# Altium integrated library Capacitor - Aluminium TH.IntLib: 4591 symbols (part 55 of 68)
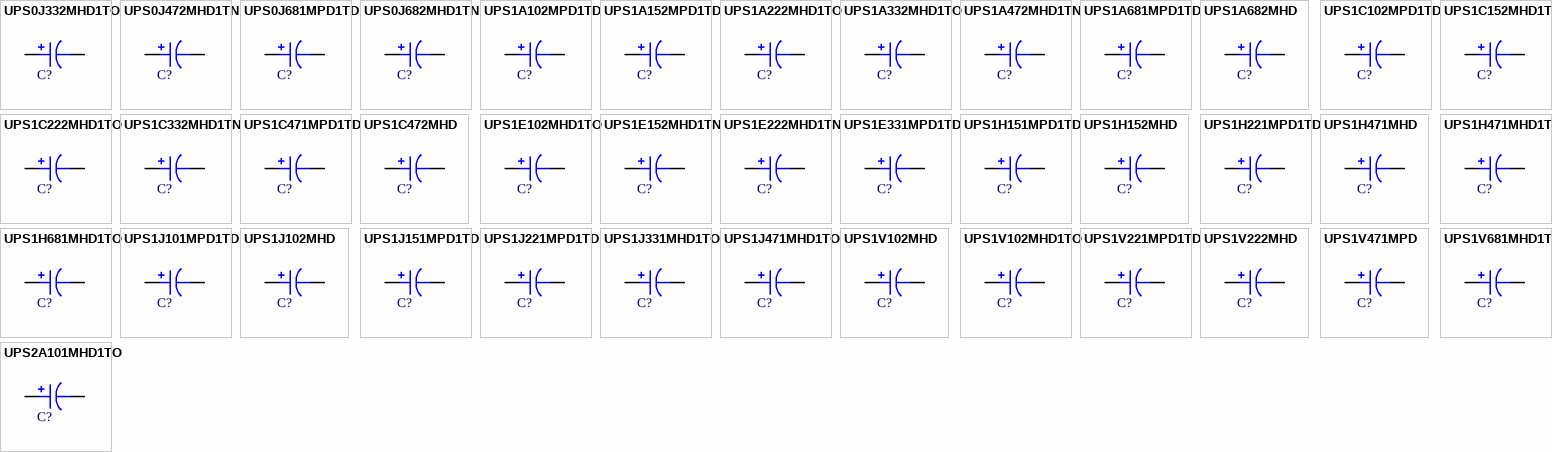
[diagram p168: symbols UPS0J332MHD1TO to UPS2A101MHD1TO]

## UPS1V222MHD
designator C?, comment 2200uF  (value not drawn)
CAP ALUM 2200UF 20% 35V RADIAL; Part Number: UPS1V222MHD; Manufacturer: Nichicon; TemperatureRange: -55C ~ 105C; Type: Polar; Ripple Current: 2.045A @ 120Hz; Impedance: 33 mOhm; Value: 2200uF; PartId: 27033; Supplier 1: Digi-Key; Supplier Part Number 1: 493-11152-ND; ComponentLink1Description: Datasheet; ComponentLink1URL: http://nichicon-us.com/english/products/pdfs/e-ups.pdf; ComponentLink2Description: Digi-Key Listing; ComponentLink2URL: https://www.digikey.com/product-detail/en/nichicon/UPS1V222MHD/493-11152-ND/2600007; Tolerance: 20%; Voltage: 35V; Price: 1.51; Device Package: Radial, Can, 16mm
footprint CAP AL TH D16 L7.5 H33.5
pins: 1, 2

## UPS1V471MPD
designator C?, comment 470uF  (value not drawn)
CAP ALUM 470UF 20% 35V RADIAL; Part Number: UPS1V471MPD; Manufacturer: Nichicon; TemperatureRange: -55C ~ 105C; Type: Polar; Ripple Current: 710mA @ 120Hz; Impedance: 110 mOhm; Value: 470uF; PartId: 25942; Supplier 1: Digi-Key; Supplier Part Number 1: UPS1V471MPD-ND; ComponentLink1Description: Datasheet; ComponentLink1URL: http://nichicon-us.com/english/products/pdfs/e-ups.pdf; ComponentLink2Description: Digi-Key Listing; ComponentLink2URL: https://www.digikey.com/product-detail/en/nichicon/UPS1V471MPD/UPS1V471MPD-ND/2600017; Tolerance: 20%; Voltage: 35V; Price: 0.74; Device Package: Radial, Can, 10mm
footprint CAP AL TH D10 L5 H22
pins: 1, 2

## UPS1V681MHD1TO
designator C?, comment 680uF  (value not drawn)
CAP ALUM 680UF 20% 35V RADIAL; Part Number: UPS1V681MHD1TO; Manufacturer: Nichicon; TemperatureRange: -55C ~ 105C; Type: Polar; Ripple Current: 887.5mA @ 120Hz; Impedance: 75 mOhm; Value: 680uF; PartId: 23244; Supplier 1: Digi-Key; Supplier Part Number 1: 493-11980-1-ND; ComponentLink1Description: Datasheet; ComponentLink1URL: http://nichicon-us.com/english/products/pdfs/e-ups.pdf; ComponentLink2Description: Digi-Key Listing; ComponentLink2URL: https://www.digikey.com/product-detail/en/nichicon/UPS1V681MHD1TO/493-11980-1-ND/4319759; Tolerance: 20%; Voltage: 35V; Price: 0.69; Device Package: Radial, Can, 12.5mm
footprint CAP AL TH D12.5 L5 H22
pins: 1, 2

## UPS2A101MHD1TO
designator C?, comment 100uF  (value not drawn)
CAP ALUM 100UF 20% 100V RADIAL; Part Number: UPS2A101MHD1TO; Manufacturer: Nichicon; TemperatureRange: -55C ~ 105C; Type: Polar; Ripple Current: 290mA @ 120Hz; Impedance: 180 mOhm; Value: 100uF; PartId: 23126; Supplier 1: Digi-Key; Supplier Part Number 1: 493-11961-3-ND; ComponentLink1Description: Datasheet; ComponentLink1URL: http://nichicon-us.com/english/products/pdfs/e-ups.pdf; ComponentLink2Description: Digi-Key Listing; ComponentLink2URL: https://www.digikey.com/product-detail/en/nichicon/UPS2A101MHD1TO/493-11961-3-ND/4321104; Tolerance: 20%; Voltage: 100V; Price: 0.2362; Device Package: Radial, Can, 12.5mm
footprint CAP AL TH D12.5 L5 H22
pins: 1, 2

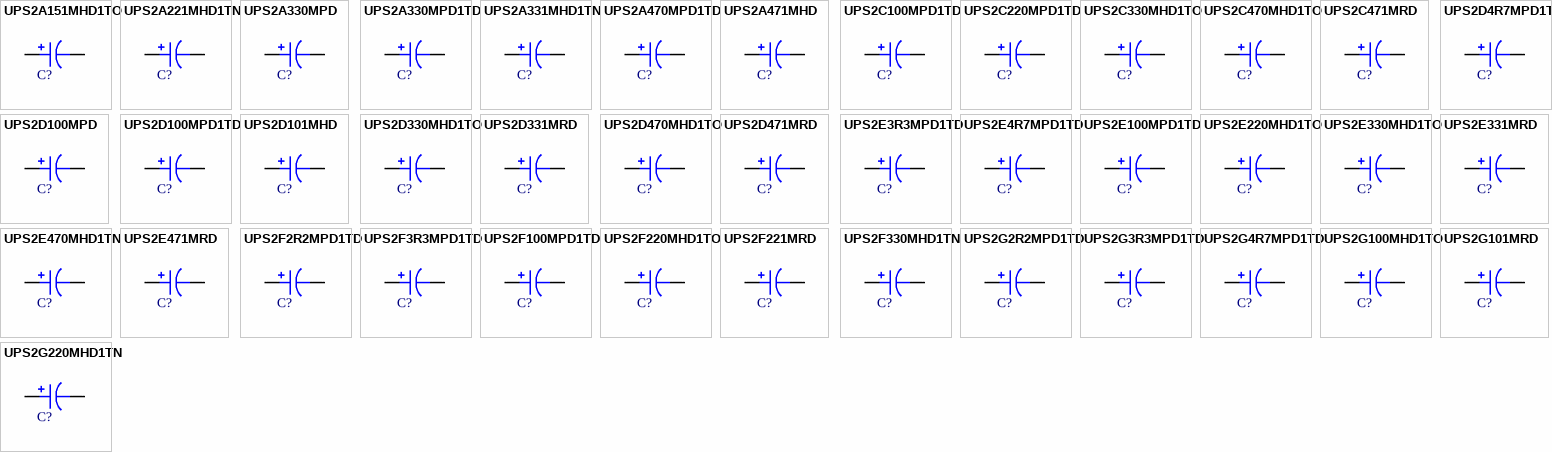
[diagram p91: symbols UPS2A151MHD1TO to UPS2G220MHD1TN]

## UPS2A151MHD1TO
designator C?, comment 150uF  (value not drawn)
CAP ALUM 150UF 20% 100V RADIAL; Part Number: UPS2A151MHD1TO; Manufacturer: Nichicon; TemperatureRange: -55C ~ 105C; Type: Polar; Ripple Current: 355mA @ 120Hz; Impedance: 130 mOhm; Value: 150uF; PartId: 23828; Supplier 1: Digi-Key; Supplier Part Number 1: 493-5379-3-ND; ComponentLink1Description: Datasheet; ComponentLink1URL: http://nichicon-us.com/english/products/pdfs/e-ups.pdf; ComponentLink2Description: Digi-Key Listing; ComponentLink2URL: https://www.digikey.com/product-detail/en/nichicon/UPS2A151MHD1TO/493-5379-3-ND/3130384; Tolerance: 20%; Voltage: 100V; Price: 0.45; Device Package: Radial, Can, 12.5mm
footprint CAP AL TH D12.5 L5 H27
pins: 1, 2

## UPS2A221MHD1TN
designator C?, comment 220uF  (value not drawn)
CAP ALUM 220UF 20% 100V RADIAL; Part Number: UPS2A221MHD1TN; Manufacturer: Nichicon; TemperatureRange: -55C ~ 105C; Type: Polar; Ripple Current: 445mA @ 120Hz; Impedance: 100 mOhm; Value: 220uF; PartId: 26736; Supplier 1: Digi-Key; Supplier Part Number 1: 493-12151-3-ND; ComponentLink1Description: Datasheet; ComponentLink1URL: http://nichicon-us.com/english/products/pdfs/e-ups.pdf; ComponentLink2Description: Digi-Key Listing; ComponentLink2URL: https://www.digikey.com/product-detail/en/nichicon/UPS2A221MHD1TN/493-12151-3-ND/4321294; Tolerance: 20%; Voltage: 100V; Price: 0.48; Device Package: Radial, Can, 16mm
footprint CAP AL TH D16 L7.5 H27
pins: 1, 2

## UPS2A330MPD
designator C?, comment 33uF  (value not drawn)
CAP ALUM 33UF 20% 100V RADIAL; Part Number: UPS2A330MPD; Manufacturer: Nichicon; TemperatureRange: -55C ~ 105C; Type: Polar; Ripple Current: 54.4mA @ 120Hz; Impedance: 460 mOhm; Value: 33uF; PartId: 24739; Supplier 1: Digi-Key; Supplier Part Number 1: UPS2A330MPD-ND; ComponentLink1Description: Datasheet; ComponentLink1URL: http://nichicon-us.com/english/products/pdfs/e-ups.pdf; ComponentLink2Description: Digi-Key Listing; ComponentLink2URL: https://www.digikey.com/product-detail/en/nichicon/UPS2A330MPD/UPS2A330MPD-ND/2600045; Tolerance: 20%; Voltage: 100V; Price: 0.41; Device Package: Radial, Can, 10mm
footprint CAP AL TH D10 L5 H14.5
pins: 1, 2

## UPS2A330MPD1TD
designator C?, comment 33uF  (value not drawn)
CAP ALUM 33UF 20% 100V RADIAL; Part Number: UPS2A330MPD1TD; Manufacturer: Nichicon; TemperatureRange: -55C ~ 105C; Type: Polar; Ripple Current: 54.4mA @ 120Hz; Impedance: 460 mOhm; Value: 33uF; PartId: 24866; Supplier 1: Digi-Key; Supplier Part Number 1: 493-11680-1-ND; ComponentLink1Description: Datasheet; ComponentLink1URL: http://nichicon-us.com/english/products/pdfs/e-ups.pdf; ComponentLink2Description: Digi-Key Listing; ComponentLink2URL: https://www.digikey.com/product-detail/en/nichicon/UPS2A330MPD1TD/493-11680-1-ND/4319765; Tolerance: 20%; Voltage: 100V; Price: 0.47; Device Package: Radial, Can, 10mm
footprint CAP AL TH D10 L5 H14.5
pins: 1, 2

## UPS2A331MHD1TN
designator C?, comment 330uF  (value not drawn)
CAP ALUM 330UF 20% 100V RADIAL; Part Number: UPS2A331MHD1TN; Manufacturer: Nichicon; TemperatureRange: -55C ~ 105C; Type: Polar; Ripple Current: 766.8mA @ 120Hz; Impedance: 90 mOhm; Value: 330uF; PartId: 26755; Supplier 1: Digi-Key; Supplier Part Number 1: 493-12236-3-ND; ComponentLink1Description: Datasheet; ComponentLink1URL: http://nichicon-us.com/english/products/pdfs/e-ups.pdf; ComponentLink2Description: Digi-Key Listing; ComponentLink2URL: https://www.digikey.com/product-detail/en/nichicon/UPS2A331MHD1TN/493-12236-3-ND/4321379; Tolerance: 20%; Voltage: 100V; Price: 0.5662; Device Package: Radial, Can, 16mm
footprint CAP AL TH D16 L7.5 H27
pins: 1, 2

## UPS2A470MPD1TD
designator C?, comment 47uF  (value not drawn)
CAP ALUM 47UF 20% 100V RADIAL; Part Number: UPS2A470MPD1TD; Manufacturer: Nichicon; TemperatureRange: -55C ~ 105C; Type: Polar; Ripple Current: 71.4mA @ 120Hz; Impedance: 370 mOhm; Value: 47uF; PartId: 25000; Supplier 1: Digi-Key; Supplier Part Number 1: 493-11734-3-ND; ComponentLink1Description: Datasheet; ComponentLink1URL: http://nichicon-us.com/english/products/pdfs/e-ups.pdf; ComponentLink2Description: Digi-Key Listing; ComponentLink2URL: https://www.digikey.com/product-detail/en/nichicon/UPS2A470MPD1TD/493-11734-3-ND/4320877; Tolerance: 20%; Voltage: 100V; Price: 0.1489; Device Package: Radial, Can, 10mm
footprint CAP AL TH D10 L5 H17.5
pins: 1, 2

## UPS2A471MHD
designator C?, comment 470uF  (value not drawn)
CAP ALUM 470UF 20% 100V RADIAL; Part Number: UPS2A471MHD; Manufacturer: Nichicon; TemperatureRange: -55C ~ 105C; Type: Polar; Ripple Current: 1.31A; Impedance: 76 mOhm; Value: 470uF; PartId: 27169; Supplier 1: Digi-Key; Supplier Part Number 1: 493-11155-ND; ComponentLink1Description: Datasheet; ComponentLink1URL: http://nichicon-us.com/english/products/pdfs/e-ups.pdf; ComponentLink2Description: Digi-Key Listing; ComponentLink2URL: https://www.digikey.com/product-detail/en/nichicon/UPS2A471MHD/493-11155-ND/2600053; Tolerance: 20%; Voltage: 100V; Price: 1.89; Device Package: Radial, Can, 16mm
footprint CAP AL TH D16 L7.5 H33.5
pins: 1, 2

## UPS2C100MPD1TD
designator C?, comment 10uF  (value not drawn)
CAP ALUM 10UF 20% 160V RADIAL; Part Number: UPS2C100MPD1TD; Manufacturer: Nichicon; TemperatureRange: -40C ~ 105C; Type: Polar; Ripple Current: 70mA @ 120Hz; Value: 10uF; PartId: 24505; Supplier 1: Digi-Key; Supplier Part Number 1: 493-11647-3-ND; ComponentLink1Description: Datasheet; ComponentLink1URL: http://nichicon-us.com/english/products/pdfs/e-ups.pdf; ComponentLink2Description: Digi-Key Listing; ComponentLink2URL: https://www.digikey.com/product-detail/en/nichicon/UPS2C100MPD1TD/493-11647-3-ND/4320790; Tolerance: 20%; Voltage: 160V; Price: 0.1194; Device Package: Radial, Can, 10mm
footprint CAP AL TH D10 L5 H14.5
pins: 1, 2

## UPS2C220MPD1TD
designator C?, comment 22uF  (value not drawn)
CAP ALUM 22UF 20% 160V RADIAL; Part Number: UPS2C220MPD1TD; Manufacturer: Nichicon; TemperatureRange: -40C ~ 105C; Type: Polar; Ripple Current: 130mA @ 120Hz; Value: 22uF; PartId: 25726; Supplier 1: Digi-Key; Supplier Part Number 1: 493-5384-3-ND; ComponentLink1Description: Datasheet; ComponentLink1URL: http://nichicon-us.com/english/products/pdfs/e-ups.pdf; ComponentLink2Description: Digi-Key Listing; ComponentLink2URL: https://www.digikey.com/product-detail/en/nichicon/UPS2C220MPD1TD/493-5384-3-ND/3130389; Tolerance: 20%; Voltage: 160V; Price: 0.1528; Device Package: Radial, Can, 10mm
footprint CAP AL TH D10 L5 H22
pins: 1, 2

## UPS2C330MHD1TO
designator C?, comment 33uF  (value not drawn)
CAP ALUM 33UF 20% 160V RADIAL; Part Number: UPS2C330MHD1TO; Manufacturer: Nichicon; TemperatureRange: -40C ~ 105C; Type: Polar; Ripple Current: 180mA @ 120Hz; Value: 33uF; PartId: 23122; Supplier 1: Digi-Key; Supplier Part Number 1: 493-5386-3-ND; ComponentLink1Description: Datasheet; ComponentLink1URL: http://nichicon-us.com/english/products/pdfs/e-ups.pdf; ComponentLink2Description: Digi-Key Listing; ComponentLink2URL: https://www.digikey.com/product-detail/en/nichicon/UPS2C330MHD1TO/493-5386-3-ND/3130391; Tolerance: 20%; Voltage: 160V; Price: 0.1946; Device Package: Radial, Can, 12.5mm
footprint CAP AL TH D12.5 L5 H22
pins: 1, 2

## UPS2C470MHD1TO
designator C?, comment 47uF  (value not drawn)
CAP ALUM 47UF 20% 160V RADIAL; Part Number: UPS2C470MHD1TO; Manufacturer: Nichicon; TemperatureRange: -40C ~ 105C; Type: Polar; Ripple Current: 220mA @ 120Hz; Value: 47uF; PartId: 23789; Supplier 1: Digi-Key; Supplier Part Number 1: 493-5387-3-ND; ComponentLink1Description: Datasheet; ComponentLink1URL: http://nichicon-us.com/english/products/pdfs/e-ups.pdf; ComponentLink2Description: Digi-Key Listing; ComponentLink2URL: https://www.digikey.com/product-detail/en/nichicon/UPS2C470MHD1TO/493-5387-3-ND/3130392; Tolerance: 20%; Voltage: 160V; Price: 0.3087; Device Package: Radial, Can, 12.5mm
footprint CAP AL TH D12.5 L5 H27
pins: 1, 2

## UPS2C471MRD
designator C?, comment 470uF  (value not drawn)
CAP ALUM 470UF 20% 160V RADIAL; Part Number: UPS2C471MRD; Manufacturer: Nichicon; TemperatureRange: -40C ~ 105C; Type: Polar; Ripple Current: 1.2A @ 120Hz; Value: 470uF; PartId: 27670; Supplier 1: Digi-Key; Supplier Part Number 1: 493-5661-ND; ComponentLink1Description: Datasheet; ComponentLink1URL: http://nichicon-us.com/english/products/pdfs/e-ups.pdf; ComponentLink2Description: Digi-Key Listing; ComponentLink2URL: https://www.digikey.com/product-detail/en/nichicon/UPS2C471MRD/493-5661-ND/2600087; Tolerance: 20%; Voltage: 160V; Price: 3.15; Device Package: Radial, Can, 22mm
footprint CAP AL TH D22 L10 H53
pins: 1, 2

## UPS2D4R7MPD1TD
designator C?, comment 4.7uF  (value not drawn)
CAP ALUM 4.7UF 20% 200V RADIAL; Part Number: UPS2D4R7MPD1TD; Manufacturer: Nichicon; TemperatureRange: -40C ~ 105C; Type: Polar; Ripple Current: 50mA @ 120Hz; Value: 4.7uF; PartId: 24506; Supplier 1: Digi-Key; Supplier Part Number 1: 493-5395-3-ND; ComponentLink1Description: Datasheet; ComponentLink1URL: http://nichicon-us.com/english/products/pdfs/e-ups.pdf; ComponentLink2Description: Digi-Key Listing; ComponentLink2URL: https://www.digikey.com/product-detail/en/nichicon/UPS2D4R7MPD1TD/493-5395-3-ND/3130400; Tolerance: 20%; Voltage: 200V; Price: 0.1194; Device Package: Radial, Can, 10mm
footprint CAP AL TH D10 L5 H14.5
pins: 1, 2

## UPS2D100MPD
designator C?, comment 10uF  (value not drawn)
CAP ALUM 10UF 20% 200V RADIAL; Part Number: UPS2D100MPD; Manufacturer: Nichicon; TemperatureRange: -40C ~ 105C; Type: Polar; Ripple Current: 80mA @ 120Hz; Value: 10uF; PartId: 25190; Supplier 1: Digi-Key; Supplier Part Number 1: UPS2D100MPD-ND; ComponentLink1Description: Datasheet; ComponentLink1URL: http://nichicon-us.com/english/products/pdfs/e-ups.pdf; ComponentLink2Description: Digi-Key Listing; ComponentLink2URL: https://www.digikey.com/product-detail/en/nichicon/UPS2D100MPD/UPS2D100MPD-ND/2428063; Tolerance: 20%; Voltage: 200V; Price: 0.48; Device Package: Radial, Can, 10mm
footprint CAP AL TH D10 L5 H17.5
pins: 1, 2

## UPS2D100MPD1TD
designator C?, comment 10uF  (value not drawn)
CAP ALUM 10UF 20% 200V RADIAL; Part Number: UPS2D100MPD1TD; Manufacturer: Nichicon; TemperatureRange: -40C ~ 105C; Type: Polar; Ripple Current: 80mA @ 120Hz; Value: 10uF; PartId: 25002; Supplier 1: Digi-Key; Supplier Part Number 1: 493-11735-3-ND; ComponentLink1Description: Datasheet; ComponentLink1URL: http://nichicon-us.com/english/products/pdfs/e-ups.pdf; ComponentLink2Description: Digi-Key Listing; ComponentLink2URL: https://www.digikey.com/product-detail/en/nichicon/UPS2D100MPD1TD/493-11735-3-ND/4320878; Tolerance: 20%; Voltage: 200V; Price: 0.1491; Device Package: Radial, Can, 10mm
footprint CAP AL TH D10 L5 H17.5
pins: 1, 2

## UPS2D101MHD
designator C?, comment 100uF  (value not drawn)
CAP ALUM 100UF 20% 200V RADIAL; Part Number: UPS2D101MHD; Manufacturer: Nichicon; TemperatureRange: -40C ~ 105C; Type: Polar; Ripple Current: 335mA; Value: 100uF; PartId: 27062; Supplier 1: Digi-Key; Supplier Part Number 1: 493-11157-ND; ComponentLink1Description: Datasheet; ComponentLink1URL: http://nichicon-us.com/english/products/pdfs/e-ups.pdf; ComponentLink2Description: Digi-Key Listing; ComponentLink2URL: https://www.digikey.com/product-detail/en/nichicon/UPS2D101MHD/493-11157-ND/2600096; Tolerance: 20%; Voltage: 200V; Price: 1.6; Device Package: Radial, Can, 16mm
footprint CAP AL TH D16 L7.5 H33.5
pins: 1, 2

## UPS2D330MHD1TO
designator C?, comment 33uF  (value not drawn)
CAP ALUM 33UF 20% 200V RADIAL; Part Number: UPS2D330MHD1TO; Manufacturer: Nichicon; TemperatureRange: -40C ~ 105C; Type: Polar; Ripple Current: 190mA @ 120Hz; Value: 33uF; PartId: 23795; Supplier 1: Digi-Key; Supplier Part Number 1: 493-5392-3-ND; ComponentLink1Description: Datasheet; ComponentLink1URL: http://nichicon-us.com/english/products/pdfs/e-ups.pdf; ComponentLink2Description: Digi-Key Listing; ComponentLink2URL: https://www.digikey.com/product-detail/en/nichicon/UPS2D330MHD1TO/493-5392-3-ND/3130397; Tolerance: 20%; Voltage: 200V; Price: 0.3304; Device Package: Radial, Can, 12.5mm
footprint CAP AL TH D12.5 L5 H27
pins: 1, 2

## UPS2D331MRD
designator C?, comment 330uF  (value not drawn)
CAP ALUM 330UF 20% 200V RADIAL; Part Number: UPS2D331MRD; Manufacturer: Nichicon; TemperatureRange: -40C ~ 105C; Type: Polar; Ripple Current: 1.1A @ 120Hz; Value: 330uF; PartId: 27595; Supplier 1: Digi-Key; Supplier Part Number 1: 493-5663-ND; ComponentLink1Description: Datasheet; ComponentLink1URL: http://nichicon-us.com/english/products/pdfs/e-ups.pdf; ComponentLink2Description: Digi-Key Listing; ComponentLink2URL: https://www.digikey.com/product-detail/en/nichicon/UPS2D331MRD/493-5663-ND/2600109; Tolerance: 20%; Voltage: 200V; Price: 3.31; Device Package: Radial, Can, 22mm
footprint CAP AL TH D22 L10 H43
pins: 1, 2

## UPS2D470MHD1TO
designator C?, comment 47uF  (value not drawn)
CAP ALUM 47UF 20% 200V RADIAL; Part Number: UPS2D470MHD1TO; Manufacturer: Nichicon; TemperatureRange: -40C ~ 105C; Type: Polar; Ripple Current: 220mA @ 120Hz; Value: 47uF; PartId: 23791; Supplier 1: Digi-Key; Supplier Part Number 1: 493-5394-3-ND; ComponentLink1Description: Datasheet; ComponentLink1URL: http://nichicon-us.com/english/products/pdfs/e-ups.pdf; ComponentLink2Description: Digi-Key Listing; ComponentLink2URL: https://www.digikey.com/product-detail/en/nichicon/UPS2D470MHD1TO/493-5394-3-ND/3130399; Tolerance: 20%; Voltage: 200V; Price: 0.3258; Device Package: Radial, Can, 12.5mm
footprint CAP AL TH D12.5 L5 H27
pins: 1, 2

## UPS2D471MRD
designator C?, comment 470uF  (value not drawn)
CAP ALUM 470UF 20% 200V RADIAL; Part Number: UPS2D471MRD; Manufacturer: Nichicon; TemperatureRange: -40C ~ 105C; Type: Polar; Ripple Current: 1.31A @ 120Hz; Value: 470uF; PartId: 27672; Supplier 1: Digi-Key; Supplier Part Number 1: 493-5664-ND; ComponentLink1Description: Datasheet; ComponentLink1URL: http://nichicon-us.com/english/products/pdfs/e-ups.pdf; ComponentLink2Description: Digi-Key Listing; ComponentLink2URL: https://www.digikey.com/product-detail/en/nichicon/UPS2D471MRD/493-5664-ND/2600116; Tolerance: 20%; Voltage: 200V; Price: 3.8; Device Package: Radial, Can, 22mm
footprint CAP AL TH D22 L10 H53
pins: 1, 2

## UPS2E3R3MPD1TD
designator C?, comment 3.3uF  (value not drawn)
CAP ALUM 3.3UF 20% 250V RADIAL; Part Number: UPS2E3R3MPD1TD; Manufacturer: Nichicon; TemperatureRange: -40C ~ 105C; Type: Polar; Ripple Current: 42mA @ 120Hz; Value: 3.3uF; PartId: 24499; Supplier 1: Digi-Key; Supplier Part Number 1: 493-5400-3-ND; ComponentLink1Description: Datasheet; ComponentLink1URL: http://nichicon-us.com/english/products/pdfs/e-ups.pdf; ComponentLink2Description: Digi-Key Listing; ComponentLink2URL: https://www.digikey.com/product-detail/en/nichicon/UPS2E3R3MPD1TD/493-5400-3-ND/3130405; Tolerance: 20%; Voltage: 250V; Price: 0.1109; Device Package: Radial, Can, 10mm
footprint CAP AL TH D10 L5 H14.5
pins: 1, 2

## UPS2E4R7MPD1TD
designator C?, comment 4.7uF  (value not drawn)
CAP ALUM 4.7UF 20% 250V RADIAL; Part Number: UPS2E4R7MPD1TD; Manufacturer: Nichicon; TemperatureRange: -40C ~ 105C; Type: Polar; Ripple Current: 50mA @ 120Hz; Value: 4.7uF; PartId: 24504; Supplier 1: Digi-Key; Supplier Part Number 1: 493-5402-3-ND; ComponentLink1Description: Datasheet; ComponentLink1URL: http://nichicon-us.com/english/products/pdfs/e-ups.pdf; ComponentLink2Description: Digi-Key Listing; ComponentLink2URL: https://www.digikey.com/product-detail/en/nichicon/UPS2E4R7MPD1TD/493-5402-3-ND/3130407; Tolerance: 20%; Voltage: 250V; Price: 0.1194; Device Package: Radial, Can, 10mm
footprint CAP AL TH D10 L5 H14.5
pins: 1, 2

## UPS2E100MPD1TD
designator C?, comment 10uF  (value not drawn)
CAP ALUM 10UF 20% 250V RADIAL; Part Number: UPS2E100MPD1TD; Manufacturer: Nichicon; TemperatureRange: -40C ~ 105C; Type: Polar; Ripple Current: 88mA @ 120Hz; Value: 10uF; PartId: 25725; Supplier 1: Digi-Key; Supplier Part Number 1: 493-11806-3-ND; ComponentLink1Description: Datasheet; ComponentLink1URL: http://nichicon-us.com/english/products/pdfs/e-ups.pdf; ComponentLink2Description: Digi-Key Listing; ComponentLink2URL: https://www.digikey.com/product-detail/en/nichicon/UPS2E100MPD1TD/493-11806-3-ND/4320949; Tolerance: 20%; Voltage: 250V; Price: 0.1528; Device Package: Radial, Can, 10mm
footprint CAP AL TH D10 L5 H22
pins: 1, 2

## UPS2E220MHD1TO
designator C?, comment 22uF  (value not drawn)
CAP ALUM 22UF 20% 250V RADIAL; Part Number: UPS2E220MHD1TO; Manufacturer: Nichicon; TemperatureRange: -40C ~ 105C; Type: Polar; Ripple Current: 155mA @ 120Hz; Value: 22uF; PartId: 23787; Supplier 1: Digi-Key; Supplier Part Number 1: 493-5398-3-ND; ComponentLink1Description: Datasheet; ComponentLink1URL: http://nichicon-us.com/english/products/pdfs/e-ups.pdf; ComponentLink2Description: Digi-Key Listing; ComponentLink2URL: https://www.digikey.com/product-detail/en/nichicon/UPS2E220MHD1TO/493-5398-3-ND/3130403; Tolerance: 20%; Voltage: 250V; Price: 0.2918; Device Package: Radial, Can, 12.5mm
footprint CAP AL TH D12.5 L5 H27
pins: 1, 2

## UPS2E330MHD1TO
designator C?, comment 33uF  (value not drawn)
CAP ALUM 33UF 20% 250V RADIAL; Part Number: UPS2E330MHD1TO; Manufacturer: Nichicon; TemperatureRange: -40C ~ 105C; Type: Polar; Ripple Current: 190mA @ 120Hz; Value: 33uF; PartId: 23868; Supplier 1: Digi-Key; Supplier Part Number 1: 493-12050-1-ND; ComponentLink1Description: Datasheet; ComponentLink1URL: http://nichicon-us.com/english/products/pdfs/e-ups.pdf; ComponentLink2Description: Digi-Key Listing; ComponentLink2URL: https://www.digikey.com/product-detail/en/nichicon/UPS2E330MHD1TO/493-12050-1-ND/4319774; Tolerance: 20%; Voltage: 250V; Price: 0.79; Device Package: Radial, Can, 12.5mm
footprint CAP AL TH D12.5 L5 H27
pins: 1, 2

## UPS2E331MRD
designator C?, comment 330uF  (value not drawn)
CAP ALUM 330UF 20% 250V RADIAL; Part Number: UPS2E331MRD; Manufacturer: Nichicon; TemperatureRange: -40C ~ 105C; Type: Polar; Ripple Current: 1.15A; Value: 330uF; PartId: 27640; Supplier 1: Digi-Key; Supplier Part Number 1: 493-11160-ND; ComponentLink1Description: Datasheet; ComponentLink1URL: http://nichicon-us.com/english/products/pdfs/e-ups.pdf; ComponentLink2Description: Digi-Key Listing; ComponentLink2URL: https://www.digikey.com/product-detail/en/nichicon/UPS2E331MRD/493-11160-ND/2600127; Tolerance: 20%; Voltage: 250V; Price: 4.05; Device Package: Radial, Can, 22mm
footprint CAP AL TH D22 L10 H53
pins: 1, 2

## UPS2E470MHD1TN
designator C?, comment 47uF  (value not drawn)
CAP ALUM 47UF 20% 250V RADIAL; Part Number: UPS2E470MHD1TN; Manufacturer: Nichicon; TemperatureRange: -40C ~ 105C; Type: Polar; Ripple Current: 230mA @ 120Hz; Value: 47uF; PartId: 26767; Supplier 1: Digi-Key; Supplier Part Number 1: 493-5401-3-ND; ComponentLink1Description: Datasheet; ComponentLink1URL: http://nichicon-us.com/english/products/pdfs/e-ups.pdf; ComponentLink2Description: Digi-Key Listing; ComponentLink2URL: https://www.digikey.com/product-detail/en/nichicon/UPS2E470MHD1TN/493-5401-3-ND/3130406; Tolerance: 20%; Voltage: 250V; Price: 0.607; Device Package: Radial, Can, 16mm
footprint CAP AL TH D16 L7.5 H27
pins: 1, 2

## UPS2E471MRD
designator C?, comment 470uF  (value not drawn)
CAP ALUM 470UF 20% 250V RADIAL; Part Number: UPS2E471MRD; Manufacturer: Nichicon; TemperatureRange: -40C ~ 105C; Type: Polar; Ripple Current: 1.35A @ 120Hz; Value: 470uF; PartId: 27529; Supplier 1: Digi-Key; Supplier Part Number 1: 493-5667-ND; ComponentLink1Description: Datasheet; ComponentLink1URL: http://nichicon-us.com/english/products/pdfs/e-ups.pdf; ComponentLink2Description: Digi-Key Listing; ComponentLink2URL: https://www.digikey.com/product-detail/en/nichicon/UPS2E471MRD/493-5667-ND/2600130; Tolerance: 20%; Voltage: 250V; Price: 4.36; Device Package: Radial, Can, 25mm
footprint CAP AL TH D25 L12.5 H52
pins: 1, 2

## UPS2F2R2MPD1TD
designator C?, comment 2.2uF  (value not drawn)
CAP ALUM 2.2UF 20% 315V RADIAL; Part Number: UPS2F2R2MPD1TD; Manufacturer: Nichicon; TemperatureRange: -40C ~ 105C; Type: Polar; Ripple Current: 28mA @ 120Hz; Value: 2.2uF; PartId: 24498; Supplier 1: Digi-Key; Supplier Part Number 1: 493-5406-3-ND; ComponentLink1Description: Datasheet; ComponentLink1URL: http://nichicon-us.com/english/products/pdfs/e-ups.pdf; ComponentLink2Description: Digi-Key Listing; ComponentLink2URL: https://www.digikey.com/product-detail/en/nichicon/UPS2F2R2MPD1TD/493-5406-3-ND/3130411; Tolerance: 20%; Voltage: 315V; Price: 0.1098; Device Package: Radial, Can, 10mm
footprint CAP AL TH D10 L5 H14.5
pins: 1, 2

## UPS2F3R3MPD1TD
designator C?, comment 3.3uF  (value not drawn)
CAP ALUM 3.3UF 20% 315V RADIAL; Part Number: UPS2F3R3MPD1TD; Manufacturer: Nichicon; TemperatureRange: -40C ~ 105C; Type: Polar; Ripple Current: 34mA @ 120Hz; Value: 3.3uF; PartId: 24496; Supplier 1: Digi-Key; Supplier Part Number 1: 493-5408-3-ND; ComponentLink1Description: Datasheet; ComponentLink1URL: http://nichicon-us.com/english/products/pdfs/e-ups.pdf; ComponentLink2Description: Digi-Key Listing; ComponentLink2URL: https://www.digikey.com/product-detail/en/nichicon/UPS2F3R3MPD1TD/493-5408-3-ND/3130413; Tolerance: 20%; Voltage: 315V; Price: 0.1075; Device Package: Radial, Can, 10mm
footprint CAP AL TH D10 L5 H14.5
pins: 1, 2

## UPS2F100MPD1TD
designator C?, comment 10uF  (value not drawn)
CAP ALUM 10UF 20% 315V RADIAL; Part Number: UPS2F100MPD1TD; Manufacturer: Nichicon; TemperatureRange: -40C ~ 105C; Type: Polar; Ripple Current: 72mA @ 120Hz; Value: 10uF; PartId: 25734; Supplier 1: Digi-Key; Supplier Part Number 1: 493-5405-3-ND; ComponentLink1Description: Datasheet; ComponentLink1URL: http://nichicon-us.com/english/products/pdfs/e-ups.pdf; ComponentLink2Description: Digi-Key Listing; ComponentLink2URL: https://www.digikey.com/product-detail/en/nichicon/UPS2F100MPD1TD/493-5405-3-ND/3130410; Tolerance: 20%; Voltage: 315V; Price: 0.1786; Device Package: Radial, Can, 10mm
footprint CAP AL TH D10 L5 H22
pins: 1, 2

## UPS2F220MHD1TO
designator C?, comment 22uF  (value not drawn)
CAP ALUM 22UF 20% 315V RADIAL; Part Number: UPS2F220MHD1TO; Manufacturer: Nichicon; TemperatureRange: -40C ~ 105C; Type: Polar; Ripple Current: 120mA @ 120Hz; Value: 22uF; PartId: 23882; Supplier 1: Digi-Key; Supplier Part Number 1: 493-12063-1-ND; ComponentLink1Description: Datasheet; ComponentLink1URL: http://nichicon-us.com/english/products/pdfs/e-ups.pdf; ComponentLink2Description: Digi-Key Listing; ComponentLink2URL: https://www.digikey.com/product-detail/en/nichicon/UPS2F220MHD1TO/493-12063-1-ND/4319775; Tolerance: 20%; Voltage: 315V; Price: 0.83; Device Package: Radial, Can, 12.5mm
footprint CAP AL TH D12.5 L5 H27
pins: 1, 2

## UPS2F221MRD
designator C?, comment 220uF  (value not drawn)
CAP ALUM 220UF 20% 315V RADIAL; Part Number: UPS2F221MRD; Manufacturer: Nichicon; TemperatureRange: -40C ~ 105C; Type: Polar; Ripple Current: 540mA @ 120Hz; Value: 220uF; PartId: 27654; Supplier 1: Digi-Key; Supplier Part Number 1: 493-5670-ND; ComponentLink1Description: Datasheet; ComponentLink1URL: http://nichicon-us.com/english/products/pdfs/e-ups.pdf; ComponentLink2Description: Digi-Key Listing; ComponentLink2URL: https://www.digikey.com/product-detail/en/nichicon/UPS2F221MRD/493-5670-ND/2600138; Tolerance: 20%; Voltage: 315V; Price: 4.34; Device Package: Radial, Can, 22mm
footprint CAP AL TH D22 L10 H53
pins: 1, 2

## UPS2F330MHD1TN
designator C?, comment 33uF  (value not drawn)
CAP ALUM 33UF 20% 315V RADIAL; Part Number: UPS2F330MHD1TN; Manufacturer: Nichicon; TemperatureRange: -40C ~ 105C; Type: Polar; Ripple Current: 155mA @ 120Hz; Value: 33uF; PartId: 26781; Supplier 1: Digi-Key; Supplier Part Number 1: 493-5407-3-ND; ComponentLink1Description: Datasheet; ComponentLink1URL: http://nichicon-us.com/english/products/pdfs/e-ups.pdf; ComponentLink2Description: Digi-Key Listing; ComponentLink2URL: https://www.digikey.com/product-detail/en/nichicon/UPS2F330MHD1TN/493-5407-3-ND/3130412; Tolerance: 20%; Voltage: 315V; Price: 0.6544; Device Package: Radial, Can, 16mm
footprint CAP AL TH D16 L7.5 H27
pins: 1, 2

## UPS2G2R2MPD1TD
designator C?, comment 2.2uF  (value not drawn)
CAP ALUM 2.2UF 20% 400V RADIAL; Part Number: UPS2G2R2MPD1TD; Manufacturer: Nichicon; TemperatureRange: -40C ~ 105C; Type: Polar; Ripple Current: 27mA @ 120Hz; Value: 2.2uF; PartId: 24991; Supplier 1: Digi-Key; Supplier Part Number 1: 493-5412-3-ND; ComponentLink1Description: Datasheet; ComponentLink1URL: http://nichicon-us.com/english/products/pdfs/e-ups.pdf; ComponentLink2Description: Digi-Key Listing; ComponentLink2URL: https://www.digikey.com/product-detail/en/nichicon/UPS2G2R2MPD1TD/493-5412-3-ND/3130417; Tolerance: 20%; Voltage: 400V; Price: 0.1266; Device Package: Radial, Can, 10mm
footprint CAP AL TH D10 L5 H17.5
pins: 1, 2

## UPS2G3R3MPD1TD
designator C?, comment 3.3uF  (value not drawn)
CAP ALUM 3.3UF 20% 400V RADIAL; Part Number: UPS2G3R3MPD1TD; Manufacturer: Nichicon; TemperatureRange: -40C ~ 105C; Type: Polar; Ripple Current: 36mA @ 120Hz; Value: 3.3uF; PartId: 25449; Supplier 1: Digi-Key; Supplier Part Number 1: 493-5413-3-ND; ComponentLink1Description: Datasheet; ComponentLink1URL: http://nichicon-us.com/english/products/pdfs/e-ups.pdf; ComponentLink2Description: Digi-Key Listing; ComponentLink2URL: https://www.digikey.com/product-detail/en/nichicon/UPS2G3R3MPD1TD/493-5413-3-ND/3130418; Tolerance: 20%; Voltage: 400V; Price: 0.145; Device Package: Radial, Can, 10mm
footprint CAP AL TH D10 L5 H22
pins: 1, 2

## UPS2G4R7MPD1TD
designator C?, comment 4.7uF  (value not drawn)
CAP ALUM 4.7UF 20% 400V RADIAL; Part Number: UPS2G4R7MPD1TD; Manufacturer: Nichicon; TemperatureRange: -40C ~ 105C; Type: Polar; Ripple Current: 43mA @ 120Hz; Value: 4.7uF; PartId: 25738; Supplier 1: Digi-Key; Supplier Part Number 1: 493-11893-3-ND; ComponentLink1Description: Datasheet; ComponentLink1URL: http://nichicon-us.com/english/products/pdfs/e-ups.pdf; ComponentLink2Description: Digi-Key Listing; ComponentLink2URL: https://www.digikey.com/product-detail/en/nichicon/UPS2G4R7MPD1TD/493-11893-3-ND/4321036; Tolerance: 20%; Voltage: 400V; Price: 0.1882; Device Package: Radial, Can, 10mm
footprint CAP AL TH D10 L5 H22
pins: 1, 2

## UPS2G100MHD1TO
designator C?, comment 10uF  (value not drawn)
CAP ALUM 10UF 20% 400V RADIAL; Part Number: UPS2G100MHD1TO; Manufacturer: Nichicon; TemperatureRange: -40C ~ 105C; Type: Polar; Ripple Current: 72mA @ 120Hz; Value: 10uF; PartId: 23931; Supplier 1: Digi-Key; Supplier Part Number 1: 493-12149-1-ND; ComponentLink1Description: Datasheet; ComponentLink1URL: http://nichicon-us.com/english/products/pdfs/e-ups.pdf; ComponentLink2Description: Digi-Key Listing; ComponentLink2URL: https://www.digikey.com/product-detail/en/nichicon/UPS2G100MHD1TO/493-12149-1-ND/4319777; Tolerance: 20%; Voltage: 400V; Price: 0.96; Device Package: Radial, Can, 12.5mm
footprint CAP AL TH D12.5 L5 H27
pins: 1, 2

## UPS2G101MRD
designator C?, comment 100uF  (value not drawn)
CAP ALUM 100UF 20% 400V RADIAL; Part Number: UPS2G101MRD; Manufacturer: Nichicon; TemperatureRange: -40C ~ 105C; Type: Polar; Ripple Current: 350mA @ 120Hz; Value: 100uF; PartId: 27634; Supplier 1: Digi-Key; Supplier Part Number 1: 493-5672-ND; ComponentLink1Description: Datasheet; ComponentLink1URL: http://nichicon-us.com/english/products/pdfs/e-ups.pdf; ComponentLink2Description: Digi-Key Listing; ComponentLink2URL: https://www.digikey.com/product-detail/en/nichicon/UPS2G101MRD/493-5672-ND/2600147; Tolerance: 20%; Voltage: 400V; Price: 3.51; Device Package: Radial, Can, 22mm
footprint CAP AL TH D22 L10 H53
pins: 1, 2

## UPS2G220MHD1TN
designator C?, comment 22uF  (value not drawn)
CAP ALUM 22UF 20% 400V RADIAL; Part Number: UPS2G220MHD1TN; Manufacturer: Nichicon; TemperatureRange: -40C ~ 105C; Type: Polar; Ripple Current: 110mA @ 120Hz; Value: 22uF; PartId: 26749; Supplier 1: Digi-Key; Supplier Part Number 1: 493-5411-3-ND; ComponentLink1Description: Datasheet; ComponentLink1URL: http://nichicon-us.com/english/products/pdfs/e-ups.pdf; ComponentLink2Description: Digi-Key Listing; ComponentLink2URL: https://www.digikey.com/product-detail/en/nichicon/UPS2G220MHD1TN/493-5411-3-ND/3130416; Tolerance: 20%; Voltage: 400V; Price: 0.5226; Device Package: Radial, Can, 16mm
footprint CAP AL TH D16 L7.5 H27
pins: 1, 2

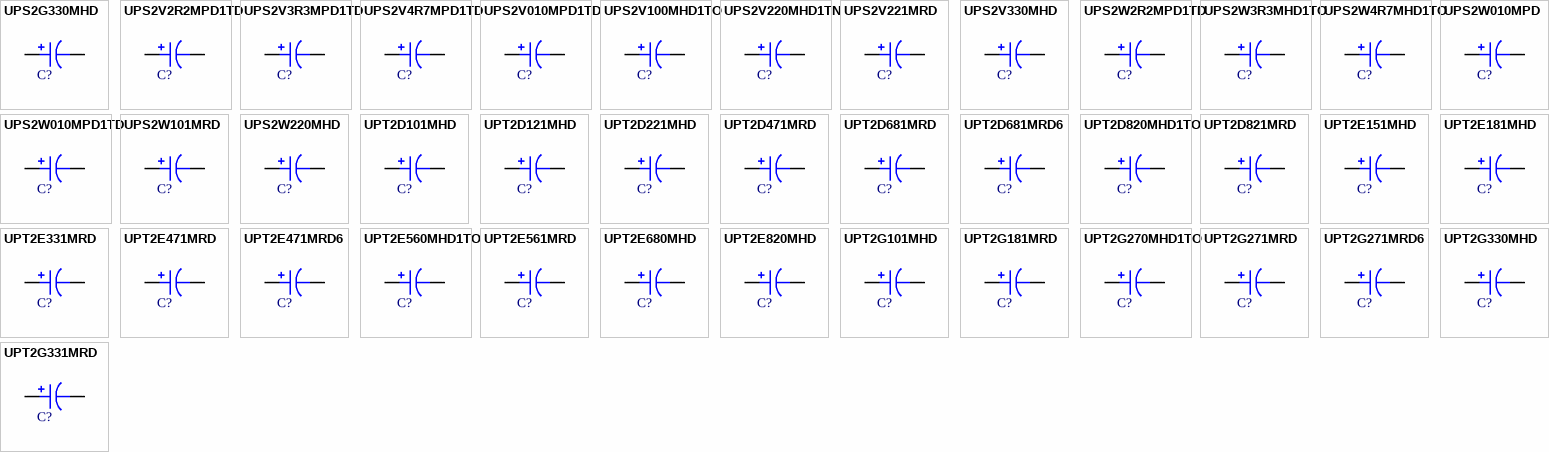
[diagram p92: symbols UPS2G330MHD to UPT2G331MRD]

## UPS2G330MHD
designator C?, comment 33uF  (value not drawn)
CAP ALUM 33UF 20% 400V RADIAL; Part Number: UPS2G330MHD; Manufacturer: Nichicon; TemperatureRange: -40C ~ 105C; Type: Polar; Ripple Current: 140mA @ 120Hz; Value: 33uF; PartId: 27074; Supplier 1: Digi-Key; Supplier Part Number 1: 493-5673-ND; ComponentLink1Description: Datasheet; ComponentLink1URL: http://nichicon-us.com/english/products/pdfs/e-ups.pdf; ComponentLink2Description: Digi-Key Listing; ComponentLink2URL: https://www.digikey.com/product-detail/en/nichicon/UPS2G330MHD/493-5673-ND/2600150; Tolerance: 20%; Voltage: 400V; Price: 1.65; Device Package: Radial, Can, 16mm
footprint CAP AL TH D16 L7.5 H33.5
pins: 1, 2

## UPS2V2R2MPD1TD
designator C?, comment 2.2uF  (value not drawn)
CAP ALUM 2.2UF 20% 350V RADIAL; Part Number: UPS2V2R2MPD1TD; Manufacturer: Nichicon; TemperatureRange: -40C ~ 105C; Type: Polar; Ripple Current: 31mA @ 120Hz; Value: 2.2uF; PartId: 24989; Supplier 1: Digi-Key; Supplier Part Number 1: 493-5415-3-ND; ComponentLink1Description: Datasheet; ComponentLink1URL: http://nichicon-us.com/english/products/pdfs/e-ups.pdf; ComponentLink2Description: Digi-Key Listing; ComponentLink2URL: https://www.digikey.com/product-detail/en/nichicon/UPS2V2R2MPD1TD/493-5415-3-ND/3130420; Tolerance: 20%; Voltage: 350V; Price: 0.1179; Device Package: Radial, Can, 10mm
footprint CAP AL TH D10 L5 H17.5
pins: 1, 2

## UPS2V3R3MPD1TD
designator C?, comment 3.3uF  (value not drawn)
CAP ALUM 3.3UF 20% 350V RADIAL; Part Number: UPS2V3R3MPD1TD; Manufacturer: Nichicon; TemperatureRange: -40C ~ 105C; Type: Polar; Ripple Current: 38mA @ 120Hz; Value: 3.3uF; PartId: 25011; Supplier 1: Digi-Key; Supplier Part Number 1: 493-5416-3-ND; ComponentLink1Description: Datasheet; ComponentLink1URL: http://nichicon-us.com/english/products/pdfs/e-ups.pdf; ComponentLink2Description: Digi-Key Listing; ComponentLink2URL: https://www.digikey.com/product-detail/en/nichicon/UPS2V3R3MPD1TD/493-5416-3-ND/3130421; Tolerance: 20%; Voltage: 350V; Price: 0.1564; Device Package: Radial, Can, 10mm
footprint CAP AL TH D10 L5 H17.5
pins: 1, 2

## UPS2V4R7MPD1TD
designator C?, comment 4.7uF  (value not drawn)
CAP ALUM 4.7UF 20% 350V RADIAL; Part Number: UPS2V4R7MPD1TD; Manufacturer: Nichicon; TemperatureRange: -40C ~ 105C; Type: Polar; Ripple Current: 49mA @ 120Hz; Value: 4.7uF; PartId: 25733; Supplier 1: Digi-Key; Supplier Part Number 1: 493-5417-3-ND; ComponentLink1Description: Datasheet; ComponentLink1URL: http://nichicon-us.com/english/products/pdfs/e-ups.pdf; ComponentLink2Description: Digi-Key Listing; ComponentLink2URL: https://www.digikey.com/product-detail/en/nichicon/UPS2V4R7MPD1TD/493-5417-3-ND/3130422; Tolerance: 20%; Voltage: 350V; Price: 0.1752; Device Package: Radial, Can, 10mm
footprint CAP AL TH D10 L5 H22
pins: 1, 2

## UPS2V010MPD1TD
designator C?, comment 1uF  (value not drawn)
CAP ALUM 1UF 20% 350V RADIAL; Part Number: UPS2V010MPD1TD; Manufacturer: Nichicon; TemperatureRange: -40C ~ 105C; Type: Polar; Ripple Current: 17mA @ 120Hz; Value: 1uF; PartId: 24895; Supplier 1: Digi-Key; Supplier Part Number 1: 493-11690-1-ND; ComponentLink1Description: Datasheet; ComponentLink1URL: http://nichicon-us.com/english/products/pdfs/e-ups.pdf; ComponentLink2Description: Digi-Key Listing; ComponentLink2URL: https://www.digikey.com/product-detail/en/nichicon/UPS2V010MPD1TD/493-11690-1-ND/4319779; Tolerance: 20%; Voltage: 350V; Price: 0.48; Device Package: Radial, Can, 10mm
footprint CAP AL TH D10 L5 H14.5
pins: 1, 2

## UPS2V100MHD1TO
designator C?, comment 10uF  (value not drawn)
CAP ALUM 10UF 20% 350V RADIAL; Part Number: UPS2V100MHD1TO; Manufacturer: Nichicon; TemperatureRange: -40C ~ 105C; Type: Polar; Ripple Current: 82mA @ 120Hz; Value: 10uF; PartId: 23254; Supplier 1: Digi-Key; Supplier Part Number 1: 493-11986-1-ND; ComponentLink1Description: Datasheet; ComponentLink1URL: http://nichicon-us.com/english/products/pdfs/e-ups.pdf; ComponentLink2Description: Digi-Key Listing; ComponentLink2URL: https://www.digikey.com/product-detail/en/nichicon/UPS2V100MHD1TO/493-11986-1-ND/4319780; Tolerance: 20%; Voltage: 350V; Price: 0.71; Device Package: Radial, Can, 12.5mm
footprint CAP AL TH D12.5 L5 H22
pins: 1, 2

## UPS2V220MHD1TN
designator C?, comment 22uF  (value not drawn)
CAP ALUM 22UF 20% 350V RADIAL; Part Number: UPS2V220MHD1TN; Manufacturer: Nichicon; TemperatureRange: -40C ~ 105C; Type: Polar; Ripple Current: 130mA @ 120Hz; Value: 22uF; PartId: 26735; Supplier 1: Digi-Key; Supplier Part Number 1: 493-5414-3-ND; ComponentLink1Description: Datasheet; ComponentLink1URL: http://nichicon-us.com/english/products/pdfs/e-ups.pdf; ComponentLink2Description: Digi-Key Listing; ComponentLink2URL: https://www.digikey.com/product-detail/en/nichicon/UPS2V220MHD1TN/493-5414-3-ND/3130419; Tolerance: 20%; Voltage: 350V; Price: 0.4664; Device Package: Radial, Can, 16mm
footprint CAP AL TH D16 L7.5 H27
pins: 1, 2

## UPS2V221MRD
designator C?, comment 220uF  (value not drawn)
CAP ALUM 220UF 20% 350V RADIAL; Part Number: UPS2V221MRD; Manufacturer: Nichicon; TemperatureRange: -40C ~ 105C; Type: Polar; Ripple Current: 550mA; Value: 220uF; PartId: 27530; Supplier 1: Digi-Key; Supplier Part Number 1: 493-11161-ND; ComponentLink1Description: Datasheet; ComponentLink1URL: http://nichicon-us.com/english/products/pdfs/e-ups.pdf; ComponentLink2Description: Digi-Key Listing; ComponentLink2URL: https://www.digikey.com/product-detail/en/nichicon/UPS2V221MRD/493-11161-ND/2600159; Tolerance: 20%; Voltage: 350V; Price: 4.42; Device Package: Radial, Can, 25mm
footprint CAP AL TH D25 L12.5 H52
pins: 1, 2

## UPS2V330MHD
designator C?, comment 33uF  (value not drawn)
CAP ALUM 33UF 20% 350V RADIAL; Part Number: UPS2V330MHD; Manufacturer: Nichicon; TemperatureRange: -40C ~ 105C; Type: Polar; Ripple Current: 160mA @ 120Hz; Value: 33uF; PartId: 27103; Supplier 1: Digi-Key; Supplier Part Number 1: 493-5677-ND; ComponentLink1Description: Datasheet; ComponentLink1URL: http://nichicon-us.com/english/products/pdfs/e-ups.pdf; ComponentLink2Description: Digi-Key Listing; ComponentLink2URL: https://www.digikey.com/product-detail/en/nichicon/UPS2V330MHD/493-5677-ND/2600161; Tolerance: 20%; Voltage: 350V; Price: 1.74; Device Package: Radial, Can, 16mm
footprint CAP AL TH D16 L7.5 H33.5
pins: 1, 2

## UPS2W2R2MPD1TD
designator C?, comment 2.2uF  (value not drawn)
CAP ALUM 2.2UF 20% 450V RADIAL; Part Number: UPS2W2R2MPD1TD; Manufacturer: Nichicon; TemperatureRange: -25C ~ 105C; Type: Polar; Ripple Current: 29mA @ 120Hz; Value: 2.2uF; PartId: 25724; Supplier 1: Digi-Key; Supplier Part Number 1: 493-5418-3-ND; ComponentLink1Description: Datasheet; ComponentLink1URL: http://nichicon-us.com/english/products/pdfs/e-ups.pdf; ComponentLink2Description: Digi-Key Listing; ComponentLink2URL: https://www.digikey.com/product-detail/en/nichicon/UPS2W2R2MPD1TD/493-5418-3-ND/3130423; Tolerance: 20%; Voltage: 450V; Price: 0.1527; Device Package: Radial, Can, 10mm
footprint CAP AL TH D10 L5 H22
pins: 1, 2

## UPS2W3R3MHD1TO
designator C?, comment 3.3uF  (value not drawn)
CAP ALUM 3.3UF 20% 450V RADIAL; Part Number: UPS2W3R3MHD1TO; Manufacturer: Nichicon; TemperatureRange: -25C ~ 105C; Type: Polar; Ripple Current: 41mA @ 120Hz; Value: 3.3uF; PartId: 23121; Supplier 1: Digi-Key; Supplier Part Number 1: 493-5419-3-ND; ComponentLink1Description: Datasheet; ComponentLink1URL: http://nichicon-us.com/english/products/pdfs/e-ups.pdf; ComponentLink2Description: Digi-Key Listing; ComponentLink2URL: https://www.digikey.com/product-detail/en/nichicon/UPS2W3R3MHD1TO/493-5419-3-ND/3130424; Tolerance: 20%; Voltage: 450V; Price: 0.1678; Device Package: Radial, Can, 12.5mm
footprint CAP AL TH D12.5 L5 H22
pins: 1, 2

## UPS2W4R7MHD1TO
designator C?, comment 4.7uF  (value not drawn)
CAP ALUM 4.7UF 20% 450V RADIAL; Part Number: UPS2W4R7MHD1TO; Manufacturer: Nichicon; TemperatureRange: -25C ~ 105C; Type: Polar; Ripple Current: 49mA @ 120Hz; Value: 4.7uF; PartId: 23123; Supplier 1: Digi-Key; Supplier Part Number 1: 493-5420-3-ND; ComponentLink1Description: Datasheet; ComponentLink1URL: http://nichicon-us.com/english/products/pdfs/e-ups.pdf; ComponentLink2Description: Digi-Key Listing; ComponentLink2URL: https://www.digikey.com/product-detail/en/nichicon/UPS2W4R7MHD1TO/493-5420-3-ND/3130425; Tolerance: 20%; Voltage: 450V; Price: 0.2068; Device Package: Radial, Can, 12.5mm
footprint CAP AL TH D12.5 L5 H22
pins: 1, 2

## UPS2W010MPD
designator C?, comment 1uF  (value not drawn)
CAP ALUM 1UF 20% 450V RADIAL; Part Number: UPS2W010MPD; Manufacturer: Nichicon; TemperatureRange: -25C ~ 105C; Type: Polar; Ripple Current: 18mA @ 120Hz; Value: 1uF; PartId: 24934; Supplier 1: Digi-Key; Supplier Part Number 1: UPS2W010MPD-ND; ComponentLink1Description: Datasheet; ComponentLink1URL: http://nichicon-us.com/english/products/pdfs/e-ups.pdf; ComponentLink2Description: Digi-Key Listing; ComponentLink2URL: https://www.digikey.com/product-detail/en/nichicon/UPS2W010MPD/UPS2W010MPD-ND/2600167; Tolerance: 20%; Voltage: 450V; Price: 0.5; Device Package: Radial, Can, 10mm
footprint CAP AL TH D10 L5 H14.5
pins: 1, 2

## UPS2W010MPD1TD
designator C?, comment 1uF  (value not drawn)
CAP ALUM 1UF 20% 450V RADIAL; Part Number: UPS2W010MPD1TD; Manufacturer: Nichicon; TemperatureRange: -25C ~ 105C; Type: Polar; Ripple Current: 18mA @ 120Hz; Value: 1uF; PartId: 24513; Supplier 1: Digi-Key; Supplier Part Number 1: 493-11672-3-ND; ComponentLink1Description: Datasheet; ComponentLink1URL: http://nichicon-us.com/english/products/pdfs/e-ups.pdf; ComponentLink2Description: Digi-Key Listing; ComponentLink2URL: https://www.digikey.com/product-detail/en/nichicon/UPS2W010MPD1TD/493-11672-3-ND/4320815; Tolerance: 20%; Voltage: 450V; Price: 0.1273; Device Package: Radial, Can, 10mm
footprint CAP AL TH D10 L5 H14.5
pins: 1, 2

## UPS2W101MRD
designator C?, comment 100uF  (value not drawn)
CAP ALUM 100UF 20% 450V RADIAL; Part Number: UPS2W101MRD; Manufacturer: Nichicon; TemperatureRange: -25C ~ 105C; Type: Polar; Ripple Current: 350mA @ 120Hz; Value: 100uF; PartId: 27520; Supplier 1: Digi-Key; Supplier Part Number 1: 493-5680-ND; ComponentLink1Description: Datasheet; ComponentLink1URL: http://nichicon-us.com/english/products/pdfs/e-ups.pdf; ComponentLink2Description: Digi-Key Listing; ComponentLink2URL: https://www.digikey.com/product-detail/en/nichicon/UPS2W101MRD/493-5680-ND/2600169; Tolerance: 20%; Voltage: 450V; Price: 4.64; Device Package: Radial, Can, 25mm
footprint CAP AL TH D25 L12.5 H52
pins: 1, 2

## UPS2W220MHD
designator C?, comment 22uF  (value not drawn)
CAP ALUM 22UF 20% 450V RADIAL; Part Number: UPS2W220MHD; Manufacturer: Nichicon; TemperatureRange: -25C ~ 105C; Type: Polar; Ripple Current: 115mA; Value: 22uF; PartId: 26993; Supplier 1: Digi-Key; Supplier Part Number 1: 493-11162-ND; ComponentLink1Description: Datasheet; ComponentLink1URL: http://nichicon-us.com/english/products/pdfs/e-ups.pdf; ComponentLink2Description: Digi-Key Listing; ComponentLink2URL: https://www.digikey.com/product-detail/en/nichicon/UPS2W220MHD/493-11162-ND/2600170; Tolerance: 20%; Voltage: 450V; Price: 1.3; Device Package: Radial, Can, 16mm
footprint CAP AL TH D16 L7.5 H33.5
pins: 1, 2

## UPT2D101MHD
designator C?, comment 100uF  (value not drawn)
CAP ALUM 100UF 20% 200V RADIAL; Part Number: UPT2D101MHD; Manufacturer: Nichicon; TemperatureRange: -25C ~ 105C; Ripple Current: 480mA; Value: 100uF; PartId: 24330; Supplier 1: Digi-Key; Supplier Part Number 1: 493-11164-ND; ComponentLink1Description: Datasheet; ComponentLink1URL: http://nichicon-us.com/english/products/pdfs/e-upt.pdf; ComponentLink2Description: Digi-Key Listing; ComponentLink2URL: https://www.digikey.com/product-detail/en/nichicon/UPT2D101MHD/493-11164-ND/2600177; Tolerance: 20%; Voltage: 200V; Price: 1.29; Device Package: Radial, Can, 12.5mm
footprint CAP AL TH D12.5 L5 H35.5
pins: 1, 2

## UPT2D121MHD
designator C?, comment 120uF  (value not drawn)
CAP ALUM 120UF 20% 200V RADIAL; Part Number: UPT2D121MHD; Manufacturer: Nichicon; TemperatureRange: -25C ~ 105C; Ripple Current: 530mA; Value: 120uF; PartId: 24345; Supplier 1: Digi-Key; Supplier Part Number 1: 493-11165-ND; ComponentLink1Description: Datasheet; ComponentLink1URL: http://nichicon-us.com/english/products/pdfs/e-upt.pdf; ComponentLink2Description: Digi-Key Listing; ComponentLink2URL: https://www.digikey.com/product-detail/en/nichicon/UPT2D121MHD/493-11165-ND/1995781; Tolerance: 20%; Voltage: 200V; Price: 1.39; Device Package: Radial, Can, 12.5mm
footprint CAP AL TH D12.5 L5 H35.5
pins: 1, 2

## UPT2D221MHD
designator C?, comment 220uF  (value not drawn)
CAP ALUM 220UF 20% 200V RADIAL; Part Number: UPT2D221MHD; Manufacturer: Nichicon; TemperatureRange: -25C ~ 105C; Type: Polar; Ripple Current: 760mA @ 120Hz; Value: 220uF; PartId: 27203; Supplier 1: Digi-Key; Supplier Part Number 1: 493-5685-ND; ComponentLink1Description: Datasheet; ComponentLink1URL: http://nichicon-us.com/english/products/pdfs/e-upt.pdf; ComponentLink2Description: Digi-Key Listing; ComponentLink2URL: https://www.digikey.com/product-detail/en/nichicon/UPT2D221MHD/493-5685-ND/2600180; Tolerance: 20%; Voltage: 200V; Price: 2.1; Device Package: Radial, Can, 16mm
footprint CAP AL TH D16 L7.5 H33.5
pins: 1, 2

## UPT2D471MRD
designator C?, comment 470uF  (value not drawn)
CAP ALUM 470UF 20% 200V RADIAL; Part Number: UPT2D471MRD; Manufacturer: Nichicon; TemperatureRange: -25C ~ 105C; Ripple Current: 1.2A; Value: 470uF; PartId: 27576; Supplier 1: Digi-Key; Supplier Part Number 1: 493-11168-ND; ComponentLink1Description: Datasheet; ComponentLink1URL: http://nichicon-us.com/english/products/pdfs/e-upt.pdf; ComponentLink2Description: Digi-Key Listing; ComponentLink2URL: https://www.digikey.com/product-detail/en/nichicon/UPT2D471MRD/493-11168-ND/2600185; Tolerance: 20%; Voltage: 200V; Price: 3.73; Device Package: Radial, Can, 22mm
footprint CAP AL TH D22 L10 H43
pins: 1, 2

## UPT2D681MRD
designator C?, comment 680uF  (value not drawn)
CAP ALUM 680UF 20% 200V RADIAL; Part Number: UPT2D681MRD; Manufacturer: Nichicon; TemperatureRange: -25C ~ 105C; Ripple Current: 1.5A; Value: 680uF; PartId: 27630; Supplier 1: Digi-Key; Supplier Part Number 1: 493-11171-ND; ComponentLink1Description: Datasheet; ComponentLink1URL: http://nichicon-us.com/english/products/pdfs/e-upt.pdf; ComponentLink2Description: Digi-Key Listing; ComponentLink2URL: https://www.digikey.com/product-detail/en/nichicon/UPT2D681MRD/493-11171-ND/2600187; Tolerance: 20%; Voltage: 200V; Price: 4.57; Device Package: Radial, Can, 22mm
footprint CAP AL TH D22 L10 H53
pins: 1, 2

## UPT2D681MRD6
designator C?, comment 680uF  (value not drawn)
CAP ALUM 680UF 20% 200V RADIAL; Part Number: UPT2D681MRD6; Manufacturer: Nichicon; TemperatureRange: -25C ~ 105C; Ripple Current: 1.5A; Value: 680uF; PartId: 27486; Supplier 1: Digi-Key; Supplier Part Number 1: 493-11170-ND; ComponentLink1Description: Datasheet; ComponentLink1URL: http://nichicon-us.com/english/products/pdfs/e-upt.pdf; ComponentLink2Description: Digi-Key Listing; ComponentLink2URL: https://www.digikey.com/product-detail/en/nichicon/UPT2D681MRD6/493-11170-ND/2600188; Tolerance: 20%; Voltage: 200V; Price: 4.74; Device Package: Radial, Can, 25mm
footprint CAP AL TH D25 L12.5 H42
pins: 1, 2

## UPT2D820MHD1TO
designator C?, comment 82uF  (value not drawn)
CAP ALUM 82UF 20% 200V RADIAL; Part Number: UPT2D820MHD1TO; Manufacturer: Nichicon; TemperatureRange: -25C ~ 105C; Type: Polar; Ripple Current: 410mA @ 120Hz; Value: 82uF; PartId: 24102; Supplier 1: Digi-Key; Supplier Part Number 1: 493-12268-1-ND; ComponentLink1Description: Datasheet; ComponentLink1URL: http://nichicon-us.com/english/products/pdfs/e-upt.pdf; ComponentLink2Description: Digi-Key Listing; ComponentLink2URL: https://www.digikey.com/product-detail/en/nichicon/UPT2D820MHD1TO/493-12268-1-ND/4319784; Tolerance: 20%; Voltage: 200V; Price: 1.33; Device Package: Radial, Can, 12.5mm
footprint CAP AL TH D12.5 L5 H27
pins: 1, 2

## UPT2D821MRD
designator C?, comment 820uF  (value not drawn)
CAP ALUM 820UF 20% 200V RADIAL; Part Number: UPT2D821MRD; Manufacturer: Nichicon; TemperatureRange: -25C ~ 105C; Ripple Current: 1.6A; Value: 820uF; PartId: 27524; Supplier 1: Digi-Key; Supplier Part Number 1: 493-11172-ND; ComponentLink1Description: Datasheet; ComponentLink1URL: http://nichicon-us.com/english/products/pdfs/e-upt.pdf; ComponentLink2Description: Digi-Key Listing; ComponentLink2URL: https://www.digikey.com/product-detail/en/nichicon/UPT2D821MRD/493-11172-ND/2600190; Tolerance: 20%; Voltage: 200V; Price: 5.76; Device Package: Radial, Can, 25mm
footprint CAP AL TH D25 L12.5 H52
pins: 1, 2

## UPT2E151MHD
designator C?, comment 150uF  (value not drawn)
CAP ALUM 150UF 20% 250V RADIAL; Part Number: UPT2E151MHD; Manufacturer: Nichicon; TemperatureRange: -25C ~ 105C; Ripple Current: 620mA; Value: 150uF; PartId: 27197; Supplier 1: Digi-Key; Supplier Part Number 1: 493-11174-ND; ComponentLink1Description: Datasheet; ComponentLink1URL: http://nichicon-us.com/english/products/pdfs/e-upt.pdf; ComponentLink2Description: Digi-Key Listing; ComponentLink2URL: https://www.digikey.com/product-detail/en/nichicon/UPT2E151MHD/493-11174-ND/2600193; Tolerance: 20%; Voltage: 250V; Price: 2.06; Device Package: Radial, Can, 16mm
footprint CAP AL TH D16 L7.5 H33.5
pins: 1, 2

## UPT2E181MHD
designator C?, comment 180uF  (value not drawn)
CAP ALUM 180UF 20% 250V RADIAL; Part Number: UPT2E181MHD; Manufacturer: Nichicon; TemperatureRange: -25C ~ 105C; Type: Polar; Ripple Current: 720mA @ 120Hz; Value: 180uF; PartId: 27410; Supplier 1: Digi-Key; Supplier Part Number 1: 493-5689-ND; ComponentLink1Description: Datasheet; ComponentLink1URL: http://nichicon-us.com/english/products/pdfs/e-upt.pdf; ComponentLink2Description: Digi-Key Listing; ComponentLink2URL: https://www.digikey.com/product-detail/en/nichicon/UPT2E181MHD/493-5689-ND/2600194; Tolerance: 20%; Voltage: 250V; Price: 2.35; Device Package: Radial, Can, 16mm
footprint CAP AL TH D16 L7.5 H37
pins: 1, 2

## UPT2E331MRD
designator C?, comment 330uF  (value not drawn)
CAP ALUM 330UF 20% 250V RADIAL; Part Number: UPT2E331MRD; Manufacturer: Nichicon; TemperatureRange: -25C ~ 105C; Ripple Current: 1.05A; Value: 330uF; PartId: 27584; Supplier 1: Digi-Key; Supplier Part Number 1: 493-11313-ND; ComponentLink1Description: Datasheet; ComponentLink1URL: http://nichicon-us.com/english/products/pdfs/e-upt.pdf; ComponentLink2Description: Digi-Key Listing; ComponentLink2URL: https://www.digikey.com/product-detail/en/nichicon/UPT2E331MRD/493-11313-ND/4319378; Tolerance: 20%; Voltage: 250V; Price: 4.28; Device Package: Radial, Can, 22mm
footprint CAP AL TH D22 L10 H43
pins: 1, 2